# Altium schematic symbol library MAX14933ASE+T.SchLib: 1 symbol
Pins are listed as number, name and electrical type; pins without a type are passive.

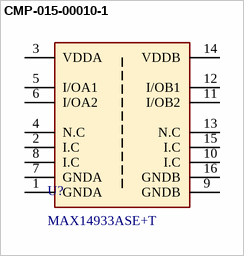
[diagram p0: symbol CMP-015-00010-1]

## CMP-015-00010-1
designator U?, comment MAX14933ASE+T
2 channel, each bidirectional, 2Mbps, 2.5kVrms digital isolator, NSOIC-16, -40C
footprint MAX14933ASE+T-Footprint-1
pins: 1 GNDA, 2 I.C, 3 VDDA, 4 N.C, 5 I/OA1, 6 I/OA2, 7 GNDA, 8 I.C, 9 GNDB, 10 I.C, 11 I/OB2, 12 I/OB1, 13 N.C, 14 VDDB, 15 I.C, 16 GNDB